# Altium footprint library Antena.PcbLib: 1 footprints
Each footprint in its own frame and in the unit in brackets; x right, y up, seen from the top. Pads: shape width x height; smd on the part's side, far side on the other; paste and mask are expansions set on the pad; w line width, h text height; cw(c..) or ccw(c..) is an arc to the next point about the centre after c.
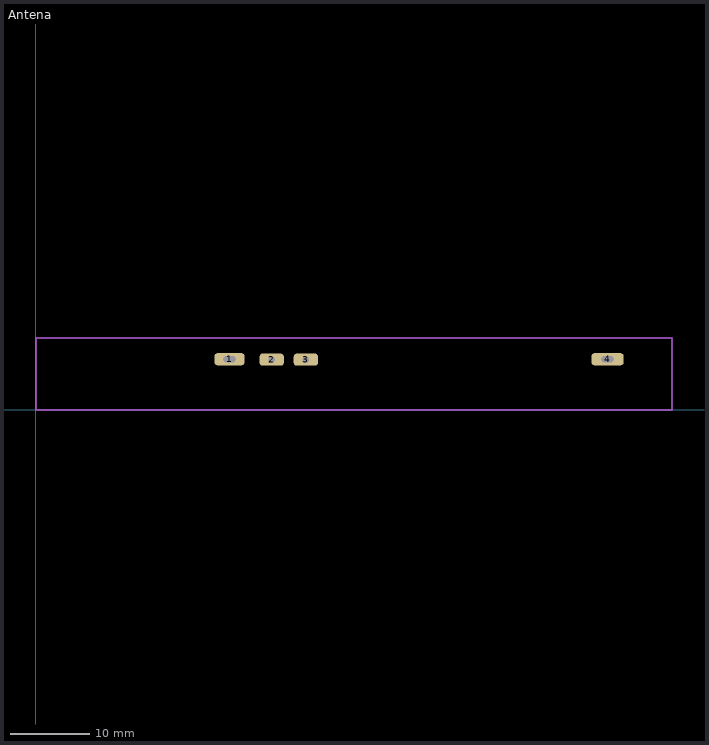
[diagram p0: the footprint, top view; thin cyan lines are the x and y axes]

## Antena [mm] "Antena"
pads (4):
  rrect50% 3.8x1.524 hole 0.762 slot 1.52 at 0 deg: 1(24.35,6.353)
  rrect50% 3.05x1.524 hole 0.762 slot 0.76 at 0 deg: 2(29.65,6.3) 3(33.95,6.3)
  rrect50% 4.06x1.524 hole 0.762 slot 1.52 at 0 deg: 4(71.87,6.35)
Mechanical 1:
  lines w0.254: 0,0 0,9 80,9 80,0 0,0
3D body: height 20, standoff 0, extent 19.34,5.54 74.34,7.166